# Altium schematic symbol library EL-sense_Fuse.SchLib: 5 symbols
Pins are listed as number, name and electrical type; pins without a type are passive.

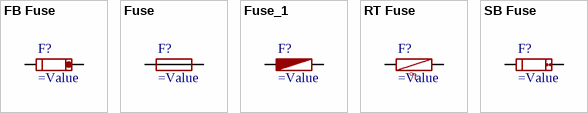
[diagram p0: symbols FB Fuse to SB Fuse]

## FB Fuse
designator F?
pins: 1, 2 1

## Fuse
designator F?
pins: 1, 2 1

## Fuse_1
designator F?
pins: 1, 2 1

## RT Fuse
designator F?
pins: 1, 2 1
text: °t

## SB Fuse
designator F?
pins: 1, 2 1